# Altium footprint library MolsonPCB.PcbLib: 42 footprints (part 2 of 3)
Each footprint in its own frame and in the unit in brackets; x right, y up, seen from the top. Pads: shape width x height; smd on the part's side, far side on the other; paste and mask are expansions set on the pad; w line width, h text height; cw(c..) or ccw(c..) is an arc to the next point about the centre after c.
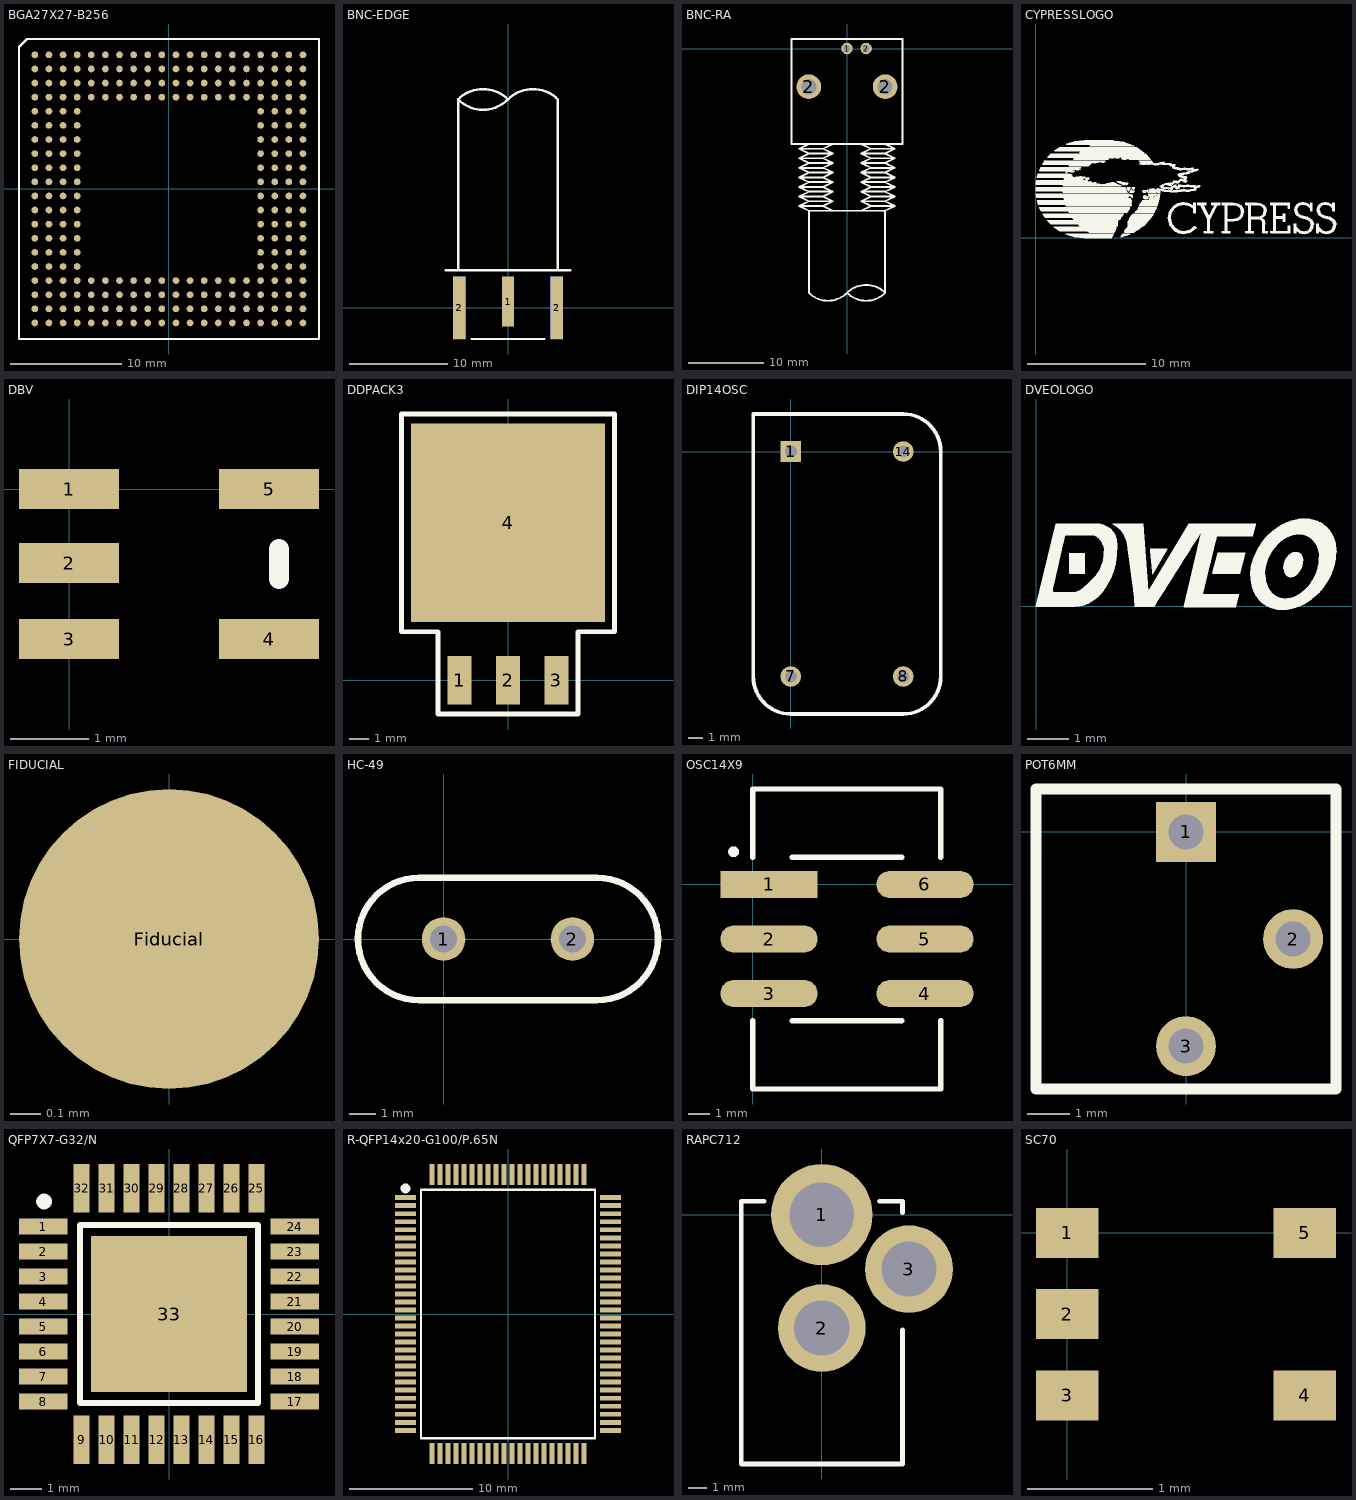
[diagram p1: the footprints below, top view; thin cyan lines are the x and y axes]

## BGA27X27-B256 [mm]
pads (256):
  round 0.6 smd: A1(-12.065,12.065) A2(-10.795,12.065) A3(-9.525,12.065) A4(-8.255,12.065) A5(-6.985,12.065) A6(-5.715,12.065) A7(-4.445,12.065) A8(-3.175,12.065) A9(-1.905,12.065) A10(-0.635,12.065) A11(0.635,12.065) A12(1.905,12.065) A13(3.175,12.065) A14(4.445,12.065) A15(5.715,12.065) A16(6.985,12.065) A17(8.255,12.065) A18(9.525,12.065) A19(10.795,12.065) A20(12.065,12.065) B1(-12.065,10.795) B2(-10.795,10.795) B3(-9.525,10.795) B4(-8.255,10.795) B5(-6.985,10.795) B6(-5.715,10.795) B7(-4.445,10.795) B8(-3.175,10.795) B9(-1.905,10.795) B10(-0.635,10.795) B11(0.635,10.795) B12(1.905,10.795) B13(3.175,10.795) B14(4.445,10.795) B15(5.715,10.795) B16(6.985,10.795) B17(8.255,10.795) B18(9.525,10.795) B19(10.795,10.795) B20(12.065,10.795) C1(-12.065,9.525) C2(-10.795,9.525) C3(-9.525,9.525) C4(-8.255,9.525) C5(-6.985,9.525) C6(-5.715,9.525) C7(-4.445,9.525) C8(-3.175,9.525) C9(-1.905,9.525) C10(-0.635,9.525) C11(0.635,9.525) C12(1.905,9.525) C13(3.175,9.525) C14(4.445,9.525) C15(5.715,9.525) C16(6.985,9.525) C17(8.255,9.525) C18(9.525,9.525) C19(10.795,9.525) C20(12.065,9.525) D1(-12.065,8.255) D2(-10.795,8.255) D3(-9.525,8.255) D4(-8.255,8.255) D5(-6.985,8.255) D6(-5.715,8.255) D7(-4.445,8.255) D8(-3.175,8.255) D9(-1.905,8.255) D10(-0.635,8.255) D11(0.635,8.255) D12(1.905,8.255) D13(3.175,8.255) D14(4.445,8.255) D15(5.715,8.255) D16(6.985,8.255) D17(8.255,8.255) D18(9.525,8.255) D19(10.795,8.255) D20(12.065,8.255) E1(-12.065,6.985) E2(-10.795,6.985) E3(-9.525,6.985) E4(-8.255,6.985) E17(8.255,6.985) E18(9.525,6.985) E19(10.795,6.985) E20(12.065,6.985) F1(-12.065,5.715) F2(-10.795,5.715) F3(-9.525,5.715) F4(-8.255,5.715) F17(8.255,5.715) F18(9.525,5.715) F19(10.795,5.715) F20(12.065,5.715) G1(-12.065,4.445) G2(-10.795,4.445) G3(-9.525,4.445) G4(-8.255,4.445) G17(8.255,4.445) G18(9.525,4.445) G19(10.795,4.445) G20(12.065,4.445) H1(-12.065,3.175) H2(-10.795,3.175) H3(-9.525,3.175) H4(-8.255,3.175) H17(8.255,3.175) H18(9.525,3.175) H19(10.795,3.175) H20(12.065,3.175) J1(-12.065,1.905) J2(-10.795,1.905) J3(-9.525,1.905) J4(-8.255,1.905) J17(8.255,1.905) J18(9.525,1.905) J19(10.795,1.905) J20(12.065,1.905) K1(-12.065,0.635) K2(-10.795,0.635) K3(-9.525,0.635) K4(-8.255,0.635) K17(8.255,0.635) K18(9.525,0.635) K19(10.795,0.635) K20(12.065,0.635) L1(-12.065,-0.635) L2(-10.795,-0.635) L3(-9.525,-0.635) L4(-8.255,-0.635) L17(8.255,-0.635) L18(9.525,-0.635) L19(10.795,-0.635) L20(12.065,-0.635) M1(-12.065,-1.905) M2(-10.795,-1.905) M3(-9.525,-1.905) M4(-8.255,-1.905) M17(8.255,-1.905) M18(9.525,-1.905) M19(10.795,-1.905) M20(12.065,-1.905) N1(-12.065,-3.175) N2(-10.795,-3.175) N3(-9.525,-3.175) N4(-8.255,-3.175) N17(8.255,-3.175) N18(9.525,-3.175) N19(10.795,-3.175) N20(12.065,-3.175) P1(-12.065,-4.445) P2(-10.795,-4.445) P3(-9.525,-4.445) P4(-8.255,-4.445) P17(8.255,-4.445) P18(9.525,-4.445) P19(10.795,-4.445) P20(12.065,-4.445) R1(-12.065,-5.715) R2(-10.795,-5.715) R3(-9.525,-5.715) R4(-8.255,-5.715) R17(8.255,-5.715) R18(9.525,-5.715) R19(10.795,-5.715) R20(12.065,-5.715) T1(-12.065,-6.985) T2(-10.795,-6.985) T3(-9.525,-6.985) T4(-8.255,-6.985) T17(8.255,-6.985) T18(9.525,-6.985) T19(10.795,-6.985) T20(12.065,-6.985) U1(-12.065,-8.255) U2(-10.795,-8.255) U3(-9.525,-8.255) U4(-8.255,-8.255) U5(-6.985,-8.255) U6(-5.715,-8.255) U7(-4.445,-8.255) U8(-3.175,-8.255) U9(-1.905,-8.255) U10(-0.635,-8.255) U11(0.635,-8.255) U12(1.905,-8.255) U13(3.175,-8.255) U14(4.445,-8.255) U15(5.715,-8.255) U16(6.985,-8.255) U17(8.255,-8.255) U18(9.525,-8.255) U19(10.795,-8.255) U20(12.065,-8.255) V1(-12.065,-9.525) V2(-10.795,-9.525) V3(-9.525,-9.525) V4(-8.255,-9.525) V5(-6.985,-9.525) V6(-5.716,-9.544) V7(-4.445,-9.525) V8(-3.175,-9.525) V9(-1.905,-9.525) V10(-0.635,-9.525) V11(0.635,-9.525) V12(1.905,-9.525) V13(3.175,-9.525) V14(4.445,-9.525) V15(5.715,-9.525) V16(6.985,-9.525) V17(8.255,-9.525) V18(9.525,-9.525) V19(10.795,-9.525) V20(12.065,-9.525) W1(-12.065,-10.795) W2(-10.795,-10.795) W3(-9.525,-10.795) W4(-8.255,-10.795) W5(-6.985,-10.795) W6(-5.715,-10.795) W7(-4.445,-10.795) W8(-3.175,-10.795) W9(-1.905,-10.795) W10(-0.635,-10.795) W11(0.635,-10.795) W12(1.905,-10.795) W13(3.175,-10.795) W14(4.445,-10.795) W15(5.715,-10.795) W16(6.985,-10.795) W17(8.255,-10.795) W18(9.525,-10.795) W19(10.795,-10.795) W20(12.065,-10.795) Y1(-12.065,-12.065) Y2(-10.795,-12.065) Y3(-9.525,-12.065) Y4(-8.255,-12.065) Y5(-6.985,-12.065) Y6(-5.715,-12.065) Y7(-4.445,-12.065) Y8(-3.175,-12.065) Y9(-1.905,-12.065) Y10(-0.635,-12.065) Y11(0.635,-12.065) Y12(1.905,-12.065) Y13(3.175,-12.065) Y14(4.445,-12.065) Y15(5.715,-12.065) Y16(6.985,-12.065) Y17(8.255,-12.065) Y18(9.525,-12.065) Y19(10.795,-12.065) Y20(12.065,-12.065)
Top Overlay:
  lines w0.2: -13.49,-13.51 -13.49,12.777 -12.778,13.49 13.51,13.49 13.51,-13.51 -13.49,-13.51

## BNC-EDGE [mil] "Edge-mount BNC Jack"
pads (5):
  rect 50x200 smd: 1(0,25)
  rect 50x250 smd: 2(-195,0) 2(195,0)
  rect 50x250 smd far side: 2(-195,0) 2(195,0)
Top Overlay:
  lines w10: -250,150 250,150 ; -200,150 -200,835 ; -145,-125 145,-125 ; -0.35,835 cw(c99.83,734.83) 200,835 200,150 ; -200.17,835 ccw(c-100,935.17) 0.17,835 ccw(c-100,734.83) -200.17,835

## BNC-RA [mil]
pads (4):
  round 60 hole 36: 1(0,0) 2(100,0)
  round 130 hole 79: 2(-200,-200) 2(200,-200)
Top Overlay:
  lines w10: -200,-500 -250,-525 ; -75,-500 -125,-525 ; 0.35,-1280 cw(c-99.83,-1179.83) -200,-1280 -200,-850 ; 75,-500 125,-525 ; 200,-1280 200,-850 ; 200,-500 250,-525 ; -250,-825 -125,-825 ; -250,-825 -200,-850 ; -250,-825 -200,-800 ; -250,-775 -125,-775 ; -250,-775 -200,-800 ; -250,-775 -200,-750 ; -250,-725 -125,-725 ; -250,-725 -200,-750 ; -250,-725 -200,-700 ; -250,-675 -125,-675 ; -250,-675 -200,-700 ; -250,-675 -200,-650 ; -250,-625 -125,-625 ; -250,-625 -200,-650 ; -250,-625 -200,-600 ; -250,-575 -125,-575 ; -250,-575 -200,-600 ; -250,-575 -200,-550 ; -250,-525 -125,-525 ; -250,-525 -200,-550 ; -200,-850 -75,-850 -125,-825 ; -200,-850 200,-850 ; -200,-800 -75,-800 ; -200,-750 -75,-750 ; -200,-700 -75,-700 ; -200,-650 -75,-650 ; -200,-600 -75,-600 ; -200,-550 -75,-550 ; -125,-825 -75,-800 ; -125,-775 -75,-800 ; -125,-775 -75,-750 ; -125,-725 -75,-750 ; -125,-725 -75,-700 ; -125,-675 -75,-700 ; -125,-675 -75,-650 ; -125,-625 -75,-650 ; -125,-625 -75,-600 ; -125,-575 -75,-600 ; -125,-575 -75,-550 ; -125,-525 -75,-550 ; 75,-800 200,-800 ; 75,-800 125,-825 ; 75,-800 125,-775 ; 75,-750 200,-750 ; 75,-750 125,-775 ; 75,-750 125,-725 ; 75,-700 200,-700 ; 75,-700 125,-725 ; 75,-700 125,-675 ; 75,-650 200,-650 ; 75,-650 125,-675 ; 75,-650 125,-625 ; 75,-600 200,-600 ; 75,-600 125,-625 ; 75,-600 125,-575 ; 75,-550 200,-550 ; 75,-550 125,-575 ; 75,-550 125,-525 ; 125,-825 250,-825 ; 125,-825 75,-850 200,-850 ; 125,-775 250,-775 ; 125,-725 250,-725 ; 125,-675 250,-675 ; 125,-625 250,-625 ; 125,-575 250,-575 ; 125,-525 250,-525 ; 200,-850 250,-825 ; 200,-800 250,-825 ; 200,-800 250,-775 ; 200,-750 250,-775 ; 200,-750 250,-725 ; 200,-700 250,-725 ; 200,-700 250,-675 ; 200,-650 250,-675 ; 200,-650 250,-625 ; 200,-600 250,-625 ; 200,-600 250,-575 ; 200,-550 250,-575 ; 200,-550 250,-525 ; -290,-500 290,-500 290,50 -290,50 -290,-500 ; 0,-1280 cw(c100.17,-1380.17) 200.35,-1280 cw(c100.17,-1179.83) 0,-1280

## CYPRESSLOGO [mm] "Cypress Semiconductor logo"
Top Overlay:
  drawing of 6090 lines, arcs and shapes, not listed

## DBV [mil]
pads (5):
  rect 50x20 smd: 1(0,0) 2(0,-37) 3(0,-75) 4(100,-75) 5(100,0)
Top Overlay:
  lines w10: 105,-45 105,-30

## DDPACK3 [mil]
pads (4):
  rect 50x100 smd: 1(-100,0) 2(0,0) 3(100,0)
  rect 400x410 smd: 4(0,325)
Top Overlay:
  lines w10: -220,100 -220,550 220,550 220,100 145,100 145,-70 -145,-70 -145,100 -220,100

## DIP14OSC [mil]
pads (4):
  rect 55x55 hole 32: 1(0,0)
  round 55 hole 32: 7(0,-600) 8(300,-600) 14(300,0)
Top Overlay:
  lines w10: -100,-600 ccw(c0,-600) 0,-700 300,-700 ccw(c300,-600) 400,-600 400,0 ccw(c300,0) 300,100 -100,100 -100,-600

## DVEOLOGO [mm]
Top Overlay:
  drawing of 1935 lines, arcs and shapes, not listed

## FIDUCIAL [mm] "Fiducial mark"
pads (1):
  round 1 smd paste-3 mask+1: Fiducial(0,0)

## HC-49 [mil]
pads (2):
  round 65 hole 40: 1(0,0) 2(192.13,0)
Top Overlay:
  lines w9.84: -36.22,-91.34 cw(c-36.22,0) -36.22,91.34 228.35,91.34 cw(c228.35,0) 228.35,-91.34 -36.22,-91.34

## OSC14X9 [mil]
pads (6):
  rect 178x50 smd: 1(30,0)
  oval 178x50 smd: 2(30,-100) 3(30,-200) 4(316,-200) 5(316,-100) 6(316,0)
Top Overlay:
  circle w9.84: c-34.92,60 r4.92
  lines w10: 0,-250 0,-375 345,-375 345,-250 ; 0,50 0,175 345,175 345,50 ; 73,-250 273,-250 ; 73,50 273,50

## POT6MM [mil]
pads (3):
  rect 55x55 hole 32: 1(0,0)
  round 55 hole 32: 2(98.43,-98.43) 3(0,-196.85)
Top Overlay:
  lines w9.84: -137.8,-236.22 -137.8,39.37 137.8,39.37 137.8,-236.22 -137.8,-236.22

## QFP7X7-G32/N [mm]
pads (33):
  rect 1.55x0.5 smd: 1(-4.025,2.8) 2(-4.025,2) 3(-4.025,1.2) 4(-4.025,0.4) 5(-4.025,-0.4) 6(-4.025,-1.2) 7(-4.025,-2) 8(-4.025,-2.8) 17(4.025,-2.8) 18(4.025,-2) 19(4.025,-1.2) 20(4.025,-0.4) 21(4.025,0.4) 22(4.025,1.2) 23(4.025,2) 24(4.025,2.8)
  rect 0.5x1.55 smd: 9(-2.8,-4.025) 10(-2,-4.025) 11(-1.2,-4.025) 12(-0.4,-4.025) 13(0.4,-4.025) 14(1.2,-4.025) 15(2,-4.025) 16(2.8,-4.025) 25(2.8,4.025) 26(2,4.025) 27(1.2,4.025) 28(0.4,4.025) 29(-0.4,4.025) 30(-1.2,4.025) 31(-2,4.025) 32(-2.8,4.025)
  rect 5x5 smd paste-5: 33(0,0)
Top Overlay:
  circle w0.25: c-4,3.6 r0.125
  lines w0.2: -2.85,-2.85 2.85,-2.85 2.85,2.85 -2.85,2.85 -2.85,-2.85
Top Paste:
  rectangle: -2.5,-2.5 -1.9,-1.9
  rectangle: 1.9,-2.5 2.5,-1.9
  rectangle: 1.9,1.9 2.5,2.5
  rectangle: -2.5,1.9 -1.9,2.5
  region: 2.5,-1.7 2.5,-0.7 1.9,-0.7 1.9,-1.7
  region: 2.5,-0.5 2.5,0.5 1.9,0.5 1.9,-0.5
  region: 2.5,0.7 2.5,1.7 1.9,1.7 1.9,0.7
  region: -1.9,-1.7 -1.9,-0.7 -2.5,-0.7 -2.5,-1.7
  region: -1.9,-0.5 -1.9,0.5 -2.5,0.5 -2.5,-0.5
  region: -1.9,0.7 -1.9,1.7 -2.5,1.7 -2.5,0.7
  rectangle: 0.7,-2.5 1.7,-1.9
  rectangle: -0.5,-2.5 0.5,-1.9
  rectangle: -1.7,-2.5 -0.7,-1.9
  rectangle: 0.7,1.9 1.7,2.5
  rectangle: -0.5,1.9 0.5,2.5
  rectangle: -1.7,1.9 -0.7,2.5
  rectangle: 0.7,-1.7 1.7,-0.7
  rectangle: -0.5,-1.7 0.5,-0.7
  rectangle: -1.7,-1.7 -0.7,-0.7
  rectangle: 0.7,-0.5 1.7,0.5
  rectangle: -0.5,-0.5 0.5,0.5
  rectangle: -1.7,-0.5 -0.7,0.5
  rectangle: 0.7,0.7 1.7,1.7
  rectangle: -0.5,0.7 0.5,1.7
  rectangle: -1.7,0.7 -0.7,1.7

## R-QFP14x20-G100/P.65N [mm]
pads (100):
  rect 1.7x0.4 smd: 1(-8.305,9.425) 2(-8.305,8.775) 3(-8.305,8.125) 4(-8.305,7.475) 5(-8.305,6.825) 6(-8.305,6.175) 7(-8.305,5.525) 8(-8.305,4.875) 9(-8.305,4.225) 10(-8.305,3.575) 11(-8.305,2.925) 12(-8.305,2.275) 13(-8.305,1.625) 14(-8.305,0.975) 15(-8.305,0.325) 16(-8.305,-0.325) 17(-8.305,-0.975) 18(-8.305,-1.625) 19(-8.305,-2.275) 20(-8.305,-2.925) 21(-8.305,-3.575) 22(-8.305,-4.225) 23(-8.305,-4.875) 24(-8.305,-5.525) 25(-8.305,-6.175) 26(-8.305,-6.825) 27(-8.305,-7.475) 28(-8.305,-8.125) 29(-8.305,-8.775) 30(-8.305,-9.425) 51(8.305,-9.425) 52(8.305,-8.775) 53(8.305,-8.125) 54(8.305,-7.475) 55(8.305,-6.825) 56(8.305,-6.175) 57(8.305,-5.525) 58(8.305,-4.875) 59(8.305,-4.225) 60(8.305,-3.575) 61(8.305,-2.925) 62(8.305,-2.275) 63(8.305,-1.625) 64(8.305,-0.975) 65(8.305,-0.325) 66(8.305,0.325) 67(8.305,0.975) 68(8.305,1.625) 69(8.305,2.275) 70(8.305,2.925) 71(8.305,3.575) 72(8.305,4.225) 73(8.305,4.875) 74(8.305,5.525) 75(8.305,6.175) 76(8.305,6.825) 77(8.305,7.475) 78(8.305,8.125) 79(8.305,8.775) 80(8.305,9.425)
  rect 0.4x1.7 smd: 31(-6.175,-11.305) 32(-5.525,-11.305) 33(-4.875,-11.305) 34(-4.225,-11.305) 35(-3.575,-11.305) 36(-2.925,-11.305) 37(-2.275,-11.305) 38(-1.625,-11.305) 39(-0.975,-11.305) 40(-0.325,-11.305) 41(0.325,-11.305) 42(0.975,-11.305) 43(1.625,-11.305) 44(2.275,-11.305) 45(2.925,-11.305) 46(3.575,-11.305) 47(4.225,-11.305) 48(4.875,-11.305) 49(5.525,-11.305) 50(6.175,-11.305) 81(6.175,11.305) 82(5.525,11.305) 83(4.875,11.305) 84(4.225,11.305) 85(3.575,11.305) 86(2.925,11.305) 87(2.275,11.305) 88(1.625,11.305) 89(0.975,11.305) 90(0.325,11.305) 91(-0.325,11.305) 92(-0.975,11.305) 93(-1.625,11.305) 94(-2.275,11.305) 95(-2.925,11.305) 96(-3.575,11.305) 97(-4.225,11.305) 98(-4.875,11.305) 99(-5.525,11.305) 100(-6.175,11.305)
Top Overlay:
  circle w0.548: c-8.305,10.175 r0.125
  lines w0.2: -7.05,-10.05 7.05,-10.05 7.05,10.05 -7.05,10.05 -7.05,-10.05

## RAPC712 [mil]
pads (3):
  round 220 hole 140: 1(0,0)
  round 190 hole 120: 2(0,-246) 3(189,-118)
Top Overlay:
  lines w10: -125,29 -175,29 -175,-541 175,-541 175,-250 ; 125,29 175,29 175,4

## SC70 [mm]
pads (5):
  rect 0.5x0.4 smd: 1(0,0) 2(0,-0.65) 3(0,-1.3) 4(1.9,-1.3) 5(1.9,0)